# EAGLE library part ICM-20948_SPARKFUN_I2C (library ICM-20948_SPARKFUN_v6)
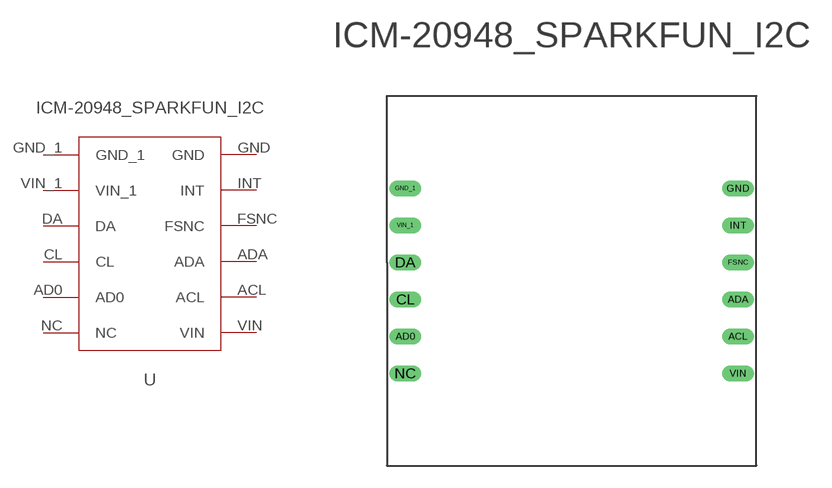
[diagram p0: symbol with the pads of ICM-20948_SPARKFUN_I2C; footprint ICM-20948_SPARKFUN_I2C]

Designator prefix -

## ICM-20948_SPARKFUN_I2C  [ICM-20948_SPARKFUN_I2C]
ACL  ACL
AD0  AD0
ADA  ADA
CL  CL
DA  DA
FSNC  FSNC
GND  GND
GND_1  GND_1
INT  INT
NC  NC
VIN  VIN
VIN_1  VIN_1

## Footprint ICM-20948_SPARKFUN_I2C (pad centres in mm)
drill 0.6 long: ACL 11.43,-5.08; AD0 -11.43,-5.08; ADA 11.43,-2.54; CL -11.43,-2.54; DA -11.43,0; FSNC 11.43,0; GND 11.43,5.08; GND_1 -11.43,5.08; INT 11.43,2.54; NC -11.43,-7.62; VIN 11.43,-7.62; VIN_1 -11.43,2.54